# Altium integrated library Accumulator_MGMT_Sys.IntLib: 73 symbols (part 1 of 2)
Pins are listed as number, name and electrical type; pins without a type are passive.

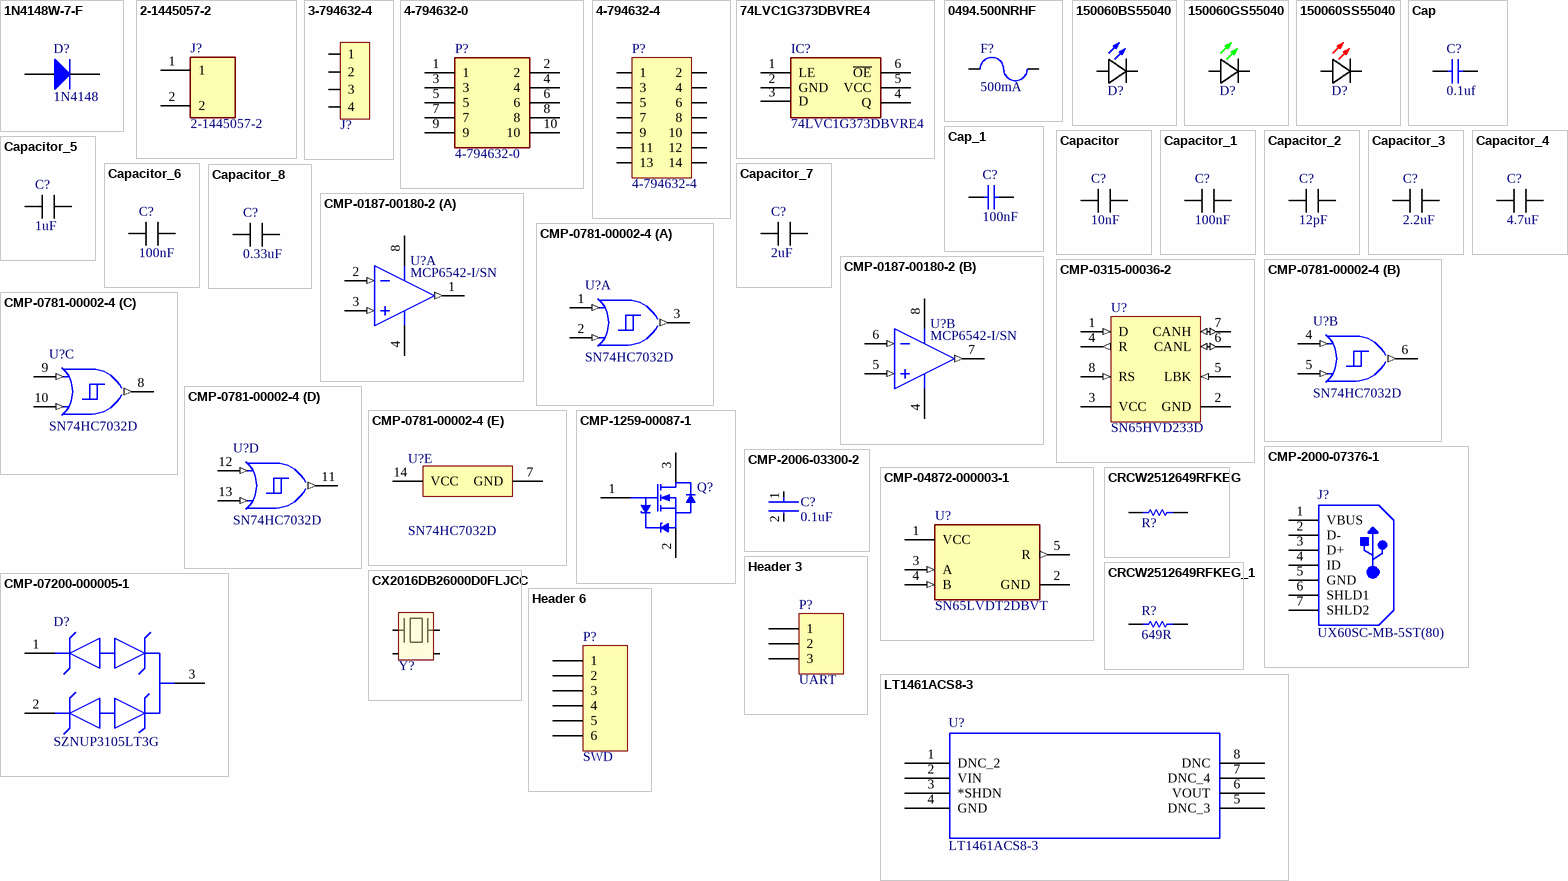
[diagram p0: symbols 1N4148W-7-F to LT1461ACS8-3]

## 1N4148W-7-F
designator D?, comment 1N4148
DIODE GEN PURP 100V 300MA SOD123; Manufacturer 1: Diodes; Manufacturer Part Number 1: 1N4148W-7-F; Forward Current: 150mA; Element Configuration: Single; Reverse Recovery Time: 4ns; Max Forward Surge Current (Ifsm): 2A; Polarity: Standard; Voltage Rating (DC): 75V; Power Rating: 400mW; Capacitance: 2pF; Peak Reverse Current: 1uA; Forward Voltage: 1.25V; Supplier 1: Digi-Key; Supplier Part Number 1: 1N4148W-FDIDKR-ND; Stock 1: 3523690; Pricing 1: 1=0.16000, 10=0.14600, 25=0.13880, 100=0.06110, 250=0.05868, 500=0.04800, 1000=0.03333 (USD); RoHS: Yes; Mount: Surface Mount; Number of Pins: 2; Weight: 0.000353oz; Contact Plating: Tin,Matte; Min Operating Temperature: -65°C; Max Operating Temperature: 150°C; Voltage: 100V; Packaging: Tape and Reel; Max Repetitive Reverse Voltage (Vrrm): 100V; Peak Non-Repetitive Surge Current: 2A; Current Rating: 150mA; Output Current: 150mA; Max Surge Current: 2A; Package Quantity: 3000; Recovery Time: 4ns; Max Reverse Voltage (DC): 100V; Average Rectified Current: 300mA; Power Dissipation: 400mW; Length: 2.85mm; Height: 1.25mm; Width: 1.7mm; Radiation Hardening: No; REACH SVHC: No SVHC; Lead Free: Lead Free; ComponentLink1URL: https://datasheet.ciiva.com/911/ds30086-911734.pdf?src-supplier=Digi-Key; ComponentLink1Description: https://datasheet.ciiva.com/911/ds30086-911734.pdf?src-supplier=Digi-Key; ComponentLink2URL: https://datasheet.ciiva.com/911/ds30086-911735.pdf?src-supplier=Digi-Key; ComponentLink2Description: https://datasheet.ciiva.com/911/ds30086-911735.pdf?src-supplier=Digi-Key; ComponentLink3URL: https://datasheet.ciiva.com/911/ds30086-911736.pdf?src-supplier=Digi-Key; ComponentLink3Description: https://datasheet.ciiva.com/911/ds30086-911736.pdf?src-supplier=Digi-Key; ComponentLink4URL: https://datasheet.ciiva.com/8300/ds30086-8300392.pdf?src-supplier=Avnet; ComponentLink4Description: https://datasheet.ciiva.com/8300/ds30086-8300392.pdf?src-supplier=Avnet; ComponentLink5URL: https://datasheet.ciiva.com/25919/ds30086-25919609.pdf?src-supplier=Avnet+Europe; ComponentLink5Description: https://datasheet.ciiva.com/25919/ds30086-25919609.pdf?src-supplier=Avnet+Europe; ComponentLink6URL: https://datasheet.ciiva.com/22695/1915529-22695239.pdf?src-supplier=Element14; ComponentLink6Description: https://datasheet.ciiva.com/22695/1915529-22695239.pdf?src-supplier=Element14; ComponentLink7URL: https://datasheet.ciiva.com/1179/1915529-1179304.pdf?src-supplier=Element14; ComponentLink7Description: https://datasheet.ciiva.com/1179/1915529-1179304.pdf?src-supplier=Element14; ComponentLink8URL: https://datasheet.ciiva.com/4435/ds30086-4435128.pdf?src-supplier=Mouser; ComponentLink8Description: https://datasheet.ciiva.com/4435/ds30086-4435128.pdf?src-supplier=Mouser; ComponentLink9URL: https://datasheet.ciiva.com/15219/getdatasheetpartid-110030-15219548.pdf?src-supplier=Verical; ComponentLink9Description: https://datasheet.ciiva.com/15219/getdatasheetpartid-110030-15219548.pdf?src-supplier=Verical; ComponentLink10URL: https://datasheet.ciiva.com/8303/ds30086-8303197.pdf?src-supplier=Avnet; ComponentLink10Description: https://datasheet.ciiva.com/8303/ds30086-8303197.pdf?src-supplier=Avnet
footprint DIOD-SOD123-2_V (SOD123, 2-Leads, Body 2.7x1.55mm, Height 1.45mm)
footprint DIOD-SOD123-2_V (SOD123, 2-Leads, Body 2.7x1.55mm, Height 1.45mm)
footprint 425 (SOD-123; 2 Leads; Body 2.7 x 1.6 mm, (LxW))
pins: 1 A, 2 K

## 2-1445057-2
designator J?
CONN HEADER 3MM 2POS R/A TIN SMD; MF: {'manufacturer': u'TE Connectivity'}; Package: None; MP: 2-1445057-2; Availability: Unavailable; Price: None; Value: *
footprint TE_2-1445057-2
pins: 1, 2

## 3-794632-4
designator J?  (value not drawn)
Conn Power HDR 4 POS 3mm Solder ST Thru-Hole 4 Terminal 1 Port Box/Tray; Manufacturer: TE Connectivity; Number of Terminals/Pins: 4; Max Voltage Rating (AC): 250V; Connector Type: Pin; Mating Retention: Yes (With); PCB Mount Alignment: No (Without); Current Rating: 5A; Number of Ports: 1; Connector System: Wire-to-Board; PCB Mount Retention: With; PCB Mounting Orientation: Vertical; VDE Tested: Yes; Pitch: 0.118inch; Row Spacing: 0.118mm; PCB Thickness: 1.57mm; Plating Thickness: 2.54um; Approvals: CSA; Supplier 1: Mouser; Manufacturer Part Number: 3-794632-4; RoHS: Yes; Category: Power Connectors; Stock 1: 833; Pricing 1: 1=1.68000, 10=1.43000, 50=1.43000, 100=1.24000, 377=1.09000, 1000=1.09000, 1131=0.93600, 2639=0.87300, 5278=0.83000, 10000=0.83000, 10179=0.81100, 25259=0.79100 (USD); Mount: Through Hole; Housing Color: Black; Contact Material: Brass; Color: Black; Housing Material: Nylon; Contact Plating: Gold,Tin; Min Operating Temperature: -40°C; Max Operating Temperature: 221°C; Packaging: Tray; Package Quantity: 377; Number of Rows: 2; Fastening Type: Ramp; Orientation: Straight; Number of Positions: 4; Termination: Solder; Number of Contacts: 4; Voltage Rating: 250V; Contact Gender: Male; Mating Alignment: Yes (With); Contact Current Rating: 5A; Contact Retention: No (Without); Sealable: No (Without); Circuit Application: Power; Number of Power Positions: 4; Length: 10mm; Width: 9.24mm; Height: 8.67mm; Depth: 8.67mm; Radiation Hardening: No; Flammability Rating: UL94 V-0; Lead Free: Lead Free; ELV: Compliant; ComponentLink1URL: https://datasheet.ciiva.com/717/eng-cd-794632-e-717814.pdf?src-supplier=Digi-Key; ComponentLink1Description: https://datasheet.ciiva.com/717/eng-cd-794632-e-717814.pdf?src-supplier=Digi-Key; ComponentLink2URL: https://datasheet.ciiva.com/30185/eng-cs-82181-softshell-high-density-0508-30185662.pdf?src-supplier=Onlinecomponents.com; ComponentLink2Description: https://datasheet.ciiva.com/30185/eng-cs-82181-softshell-high-density-0508-30185662.pdf?src-supplier=Onlinecomponents.com; Supplier Part Number 1: 571-3-794632-4
footprint 3-794632-4 (4 pos Vert Micro MATE-N-LOK)
pins: 1, 2, 3, 4

## 4-794632-0
designator P?
Connector; Manufacturer_Name: TE Connectivity; Datasheet Link: https://www.mouser.com/ProductDetail/TE-Connectivity-AMP/4-794632-0?qs=Rd%252BN518myCyGOpGRvqIhCg%3D%3D; Height: 9.44mm; Manufacturer_Part_Number: 4-794632-0; Mouser Part Number: 571-4-794632-0; Mouser Price/Stock: https://www.mouser.co.uk/ProductDetail/TE-Connectivity-AMP/4-794632-0?qs=Rd%252BN518myCyGOpGRvqIhCg%3D%3D
footprint SHDR10W82P300_2X5_1586X686X944P
pins: 1, 2, 3, 4, 5, 6, 7, 8, 9, 10

## 4-794632-4
designator P?
Micro MATE-N-LOK, Rectangular Power Connectors, Header, Plug, Wire-to-Board, 14 Position
footprint 4-794632-4 (14 Way Micro MATE-N-LOK)
pins: 1, 2, 3, 4, 5, 6, 7, 8, 9, 10, 11, 12, 13, 14

## 74LVC1G373DBVRE4
designator IC?
Integrated Circuit; Manufacturer_Name: Texas Instruments; Datasheet Link: http://www.ti.com/general/docs/suppproductinfo.tsp?distId=10&gotoUrl=http%3A%2F%2Fwww.ti.com%2Flit%2Fgpn%2Fsn74lvc1g373; Height: 1.45mm; Manufacturer_Part_Number: 74LVC1G373DBVRE4
footprint SOT95P280X145-6N
footprint SOT95P280X145-6N
footprint SN74LVC1G373
pins: 1 LE, 2 GND, 3 D, 4 Q, 5 VCC, 6 ~{OE}

## 0494.500NRHF
designator F?  value 500mA  (hidden comment: 0494.500NRHF)
Surface Mount Fuses 32V .500A Case 0603 Protector Slim
footprint 0494.500NRHF (500mA Fast Blow Fuse)
pins: 1, 2

## 150060BS55040
designator D?  (value not drawn)
LED BLUE DIFFUSED 0603 SMD; Manufacturer: Wurth Electronics; Lens Style: Flat; Luminous Intensity: 80mcd; Forward Voltage: 3.2V; Test Current: 20mA; Viewing Angle: 140°; Dominant Wavelength: 470nm; Lens Size: 0.8mm; Supplier 1: Mouser; Manufacturer Part Number: 150060BS55040; RoHS: No; Pricing 1: 1=0.18000, 10=0.16800, 50=0.16800, 100=0.15200, 1000=0.12100, 10000=0.10600 (USD); Mount: Surface Mount; Case/Package: 0603; Color: Blue; Packaging: Tape and Reel; Lens Transparency: Diffused; Length: 1.6mm; Width: 0.8mm; Height: 0.5mm; RoHS Compliant: No; ComponentLink1URL: http://www.farnell.com/datasheets/2621640.pdf?src-supplier=Farnell; ComponentLink1Description: http://www.farnell.com/datasheets/2621640.pdf?src-supplier=Farnell; ComponentLink2URL: https://www.we-online.de/web/en/index.php/download/media/07_electronic_components/download_center_1/application_notes_berichte/ano002_leds___the_future_of_horticultural_lighting/ANO002b_EN_LEDs_The_Future_of_Horticultural_Lighting.pdf?src-supplier=Digi-Key; ComponentLink2Description: https://www.we-online.de/web/en/index.php/download/media/07_electronic_components/download_center_1/application_notes_berichte/ano002_leds___the_future_of_horticultural_lighting/ANO002b_EN_LEDs_The_Future_of_Horticultural_Lighting.pdf?src-supplier=Digi-Key; ComponentLink3URL: https://katalog.we-online.de/pbs/datasheet/150060BS55040.pdf?src-supplier=Digi-Key; ComponentLink3Description: https://katalog.we-online.de/pbs/datasheet/150060BS55040.pdf?src-supplier=Digi-Key; ComponentLink4URL: http://www.farnell.com/datasheets/2621640.pdf?src-supplier=Newark; ComponentLink4Description: http://www.farnell.com/datasheets/2621640.pdf?src-supplier=Newark; Supplier Part Number 1: 710-150060BS55040
footprint LED (0603)
pins: 1 K, 2 A

## 150060GS55040
designator D?  (value not drawn)
LED GREEN DIFFUSED 0603 SMD; Manufacturer: Wurth Electronics; Lens Style: Flat; Luminous Intensity: 430mcd; Forward Voltage: 3.2V; Test Current: 20mA; Viewing Angle: 140°; Dominant Wavelength: 525nm; Lens Size: 0.8mm; Supplier 1: Mouser; Manufacturer Part Number: 150060GS55040; RoHS: No; Category: LEDs; Stock 1: 3998; Pricing 1: 1=0.23000, 10=0.21000, 50=0.21000, 100=0.19000, 1000=0.15200, 10000=0.13200 (USD); Mount: Surface Mount; Case/Package: 0603; Color: Green; Case Code (Imperial): 0603; Case Code (Metric): 1608; Packaging: Cut Tape; Lens Transparency: Diffused; Length: 1.6mm; Width: 0.8mm; Height: 0.5mm; RoHS Compliant: No; ComponentLink1URL: http://www.farnell.com/datasheets/2621642.pdf?src-supplier=Farnell; ComponentLink1Description: http://www.farnell.com/datasheets/2621642.pdf?src-supplier=Farnell; ComponentLink2URL: http://katalog.we-online.de/pbs/datasheet/150060GS55040.pdf?src-supplier=Digi-Key; ComponentLink2Description: http://katalog.we-online.de/pbs/datasheet/150060GS55040.pdf?src-supplier=Digi-Key; ComponentLink3URL: https://www.we-online.de/web/en/index.php/download/media/07_electronic_components/download_center_1/application_notes_berichte/ano002_leds___the_future_of_horticultural_lighting/ANO002b_EN_LEDs_The_Future_of_Horticultural_Lighting.pdf?src-supplier=Digi-Key; ComponentLink3Description: https://www.we-online.de/web/en/index.php/download/media/07_electronic_components/download_center_1/application_notes_berichte/ano002_leds___the_future_of_horticultural_lighting/ANO002b_EN_LEDs_The_Future_of_Horticultural_Lighting.pdf?src-supplier=Digi-Key; ComponentLink4URL: https://katalog.we-online.de/pbs/datasheet/150060GS55040.pdf?src-supplier=Digi-Key; ComponentLink4Description: https://katalog.we-online.de/pbs/datasheet/150060GS55040.pdf?src-supplier=Digi-Key; ComponentLink5URL: http://www.farnell.com/datasheets/2621642.pdf?src-supplier=Newark; ComponentLink5Description: http://www.farnell.com/datasheets/2621642.pdf?src-supplier=Newark; Supplier Part Number 1: 710-150060GS55040
footprint LED (0603)
pins: 1 K, 2 A

## 150060SS55040
designator D?  (value not drawn)
LED RED DIFFUSED 0603 SMD; Manufacturer: Wurth Electronics; Lens Style: Flat; Luminous Intensity: 70mcd; Forward Voltage: 2V; Test Current: 20mA; Viewing Angle: 140°; Dominant Wavelength: 630nm; Lens Size: 0.8mm; Supplier 1: Mouser; Manufacturer Part Number: 150060SS55040; RoHS: No; Category: LEDs; Stock 1: 17006; Pricing 1: 1=0.18000, 10=0.16800, 50=0.16800, 100=0.15200, 1000=0.12100, 10000=0.10600 (USD); Mount: Surface Mount; Case/Package: 0603; Color: Red; Case Code (Imperial): 0603; Case Code (Metric): 1608; Packaging: Tape and Reel; Lens Transparency: Diffused; Length: 1.6mm; Width: 0.8mm; Height: 0.5mm; RoHS Compliant: No; Supplier Part Number 1: 710-150060SS55040
footprint LED (0603)
pins: 1 K, 2 A

## Cap
designator C?  value 0.1uf  (hidden comment: Cap)
264-4630; Published: 8-Jun-2000; LatestRevisionDate: 17-Jul-2002; LatestRevisionNote: Re-released for DXP Platform.; PackageReference: RAD-0.3; Publisher: Altium Limited; PackageDescription: Radial Cap, Thru-Hole; 2 Leads; 0.3 in Pin Spacing
simulation model CAP (Capacitor)
signal-integrity model Cap
footprint CAP0603 (Chip Capacitor, 2-Leads, Body 1.60x0.80mm, IPC Medium Density)
pins: 1, 2

## Cap_1
designator C?, comment value 100nF  (hidden comment: Cap)
Published: 8-Jun-2000; LatestRevisionDate: 17-Jul-2002; LatestRevisionNote: Re-released for DXP Platform.; PackageReference: RAD-0.3; Publisher: Altium Limited; PackageDescription: Radial Cap, Thru-Hole; 2 Leads; 0.3 in Pin Spacing
simulation model CAP (Capacitor)
signal-integrity model Cap
footprint CAP0603 (Chip Capacitor, 2-Leads, Body 1.60x0.80mm, IPC Medium Density)
pins: 1, 2

## Capacitor
designator C?, comment value 10nF  (hidden comment: C)
Capacitor; ComponentLink1Description: New link; ComponentLink1URL: *
footprint C_0805 (0805 Capacitor)
footprint C_1210 (1210 Capacitor)
footprint 0402 (0402 Capacitor)
footprint CAP0603 (Chip Capacitor, 2-Leads, Body 1.60x0.80mm, IPC Medium Density)
pins: 1, 2

## Capacitor_1
designator C?, comment value 100nF  (hidden comment: C)
Capacitor; ComponentLink1Description: New link; ComponentLink1URL: *
footprint 0402 (0402 Capacitor)
footprint C_0805 (0805 Capacitor)
footprint C_1210 (1210 Capacitor)
footprint CAP0603 (Chip Capacitor, 2-Leads, Body 1.60x0.80mm, IPC Medium Density)
pins: 1, 2

## Capacitor_2
designator C?, comment value 12pF  (hidden comment: C)
Capacitor; ComponentLink1Description: New link; ComponentLink1URL: *
footprint 0402 (0402 Capacitor)
footprint C_0805 (0805 Capacitor)
footprint C_1210 (1210 Capacitor)
footprint C_0603 (0603 Capacitor)
pins: 1, 2

## Capacitor_3
designator C?, comment value 2.2uF  (hidden comment: C)
Capacitor; ComponentLink1Description: New link; ComponentLink1URL: *
footprint 0402 (0402 Capacitor)
footprint C_0805 (0805 Capacitor)
footprint C_1210 (1210 Capacitor)
footprint CAP0603 (Chip Capacitor, 2-Leads, Body 1.60x0.80mm, IPC Medium Density)
pins: 1, 2

## Capacitor_4
designator C?, comment value 4.7uF  (hidden comment: C)
Capacitor; ComponentLink1Description: New link; ComponentLink1URL: *
footprint 0402 (0402 Capacitor)
footprint C_0805 (0805 Capacitor)
footprint C_1210 (1210 Capacitor)
footprint CAP0603 (Chip Capacitor, 2-Leads, Body 1.60x0.80mm, IPC Medium Density)
pins: 1, 2

## Capacitor_5
designator C?, comment value 1uF  (hidden comment: C)
Capacitor; ComponentLink1Description: New link; ComponentLink1URL: *
footprint 0402 (0402 Capacitor)
footprint C_0805 (0805 Capacitor)
footprint C_1210 (1210 Capacitor)
footprint CAP0603 (Chip Capacitor, 2-Leads, Body 1.60x0.80mm, IPC Medium Density)
pins: 1, 2

## Capacitor_6
designator C?, comment value 100nF  (hidden comment: CL10B104KA8NNWC)
Capacitor; ComponentLink1Description: New link; ComponentLink1URL: *
footprint 0402 (0402 Capacitor)
footprint C_0805 (0805 Capacitor)
footprint C_1210 (1210 Capacitor)
footprint CAP0603 (Chip Capacitor, 2-Leads, Body 1.60x0.80mm, IPC Medium Density)
pins: 1, 2

## Capacitor_7
designator C?, comment value 2uF  (hidden comment: C)
Capacitor; ComponentLink1Description: New link; ComponentLink1URL: *
footprint 0402 (0402 Capacitor)
footprint C_0805 (0805 Capacitor)
footprint C_1210 (1210 Capacitor)
footprint CAP0603 (Chip Capacitor, 2-Leads, Body 1.60x0.80mm, IPC Medium Density)
pins: 1, 2

## Capacitor_8
designator C?, comment value 0.33uF  (hidden comment: C)
Capacitor; ComponentLink1Description: New link; ComponentLink1URL: *
footprint 0402 (0402 Capacitor)
footprint C_0805 (0805 Capacitor)
footprint C_1210 (1210 Capacitor)
footprint CAP0603 (Chip Capacitor, 2-Leads, Body 1.60x0.80mm, IPC Medium Density)
pins: 1, 2

## CMP-0187-00180-2
designator U?, comment MCP6542-I/SN
Push-Pull Output Sub-Microamp Comparator, 8-Pin SOIC, Industrial Temperature; Manufacturer: Microchip; PackageReference: SOIC-SN8; PackageVersion: revBB, Aug-2009; ComponentLink3URL: http://www.microchip.com/stellent/groups/techpub_sg/documents/packagingspec/en012702.pdf; Code_JEDEC: MS-012; DatasheetVersion: revH, Dec-2011; ComponentLink1URL: http://www.microchip.com/; ComponentLink2Description: Datasheet; RevisionNote: URLs added. DatasheetVersion updated.; ComponentLink2URL: http://ww1.microchip.com/downloads/en/DeviceDoc/21696H.pdf; ComponentLink3Description: Package Specification; ComponentLink1Description: Manufacturer URL; Code_IPC: SOIC127P600-8; PackageDescription: 8-Lead Plastic Small Outline (SN) - Narrow, 3.90mm Body [SOIC]; Manufacturer Part Number: MCP6542-I/SN
footprint SOIC-SN8_N (SOIC, 8-Leads, Body 4.9x3.8mm, Pitch 1.27mm, IPC Medium Density)
footprint SOIC-SN8_M (SOIC, 8-Leads, Body 4.9x3.8mm, Pitch 1.27mm, IPC Low Density)
footprint SOIC-SN8_L (SOIC, 8-Leads, Body 4.9x3.8mm, Pitch 1.27mm, IPC High Density)
pins on every part: 4 VSS (power), 8 VDD
part A pins: 1 OUTA (out), 2 VINA- (in), 3 VINA+ (in)
part B pins: 5 VINB+ (in), 6 VINB- (in), 7 OUTB (out)

## CMP-0315-00036-2
designator U?, comment SN65HVD233D
3.3V CAN Transceiver with Standby Mode, Loop-back, 6 mA, -40 to 125 degC, 8-pin SOIC (D), Green (RoHS & no Sb/Br); Manufacturer: Texas Instruments; Receivers Per Package: 1; Bus Fault Voltage(V): +/-30; Rating: Catalog; ICC(Max)(mA): 6; Supply Voltage(s)(V): 3.3; Transient Pulse Protection(V): -100 to 100; PackageVersion: revM, Jun-2011; PackageReference: D0008A; ComponentLink1Description: Datasheet; Isolated: No; Footprint: PCA82C250, excludes pin5; DatasheetVersion: SLLS557F; PackageDescription: 8-Pin Plastic Small Outline Integrated Circuit, 4.9 x 3.9 mm, Pitch 1.27 mm Pitch; Features: Loop Back; Low Power Mode: Standby; SubFamily: CAN; Drivers Per Package: 1; Eco-Plan: Green (RoHS & no Sb/Br); ComponentLink1URL: http://www.ti.com/general/docs/lit/getliterature.tsp?genericPartNumber=SN65HVD233&fileType=pdf; PartNumber: SN65HVD233D; Code_JEDEC: MS-012AA; Mounting Technology: Surface Mount; Manufacturer Part Number: SN65HVD233D
footprint D0008A_N (SOIC, 8-Leads, Body 5x4mm, Pitch 1.27mm, IPC Medium Density)
footprint D0008A_L (SOIC, 8-Leads, Body 5x4mm, Pitch 1.27mm, IPC High Density)
footprint D0008A_M (SOIC, 8-Leads, Body 5x4mm, Pitch 1.27mm, IPC Low Density)
pins: 1 D (in), 2 GND (power), 3 VCC, 4 R (out), 5 LBK (in), 6 CANL (io), 7 CANH (io), 8 RS (in)

## CMP-0781-00002-4
designator U?, comment SN74HC7032D
Quadruple Positive-OR Gates With Schmitt-Trigger Inputs, D0014A, TUBE; Manufacturer: Texas Instruments; Output Drive (IOL/IOH)(Max)(mA): 5.2/-5.2; Output Type: CMOS; Bits(#): 4; Rating: Catalog; VCC(Max)(V): 6; VCC(Min)(V): 2; ICC @ Nom Voltage(Max)(mA): 0.02; Voltage(Nom)(V): 5; tpd @ Nom Voltage(Max)(ns): 33; F @ Nom Voltage(Max)(Mhz): 70; Code_JEDEC: MS-012; Generic Part Number: SN74HC7032; PackageReference: D0014A; DatasheetVersion: SCLS036E; PackageVersion: http://www.ti.com/lit/ml/mpds177g/mpds177g.pdf; Operating Temperature Range(C): -40 to 85; Input Type: CMOS; Manufacturer Part Number: SN74HC7032D
footprint D0014A_L (SOIC, 14-Leads, Body 8.75x4mm, Pitch 1.27mm, IPC High Density)
footprint D0014A_M (SOIC, 14-Leads, Body 8.75x4mm, Pitch 1.27mm, IPC Low Density)
footprint D0014A_N (SOIC, 14-Leads, Body 8.75x4mm, Pitch 1.27mm, IPC Medium Density)
part A pins: 1 1A (in), 2 1B (in), 3 1Y (out)
part B pins: 4 2A (in), 5 2B (in), 6 2Y (out)
part C pins: 8 3Y (out), 9 3A (in), 10 3B (in)
part D pins: 11 4Y (out), 12 4A (in), 13 4B (in)
part E pins: 7 GND (power), 14 VCC (power)

## CMP-1259-00087-1
designator Q?, comment BSS138BK,215  (value not drawn)
N-Channel Trench MOSFET, 60 V, 0.36 A, -55 to 150 degC, 3-Pin SOT23, Tape and Reel; Manufacturer: NXP Semiconductors; Manufacturer Part Number: BSS138BK215; Channel Type: N; IDM [max] (A): 1.2; VDS [max] (V): 60; Packing: Tape & Reel; ID [max] (A): 0.36; Automotive Qualified: Y; VGSth [typ] (V): 1.1; PackageReference: SOT23; Code_JEDEC: TO-236AB; PackageDescription: 3-Pin Small Outline Transistor Package, Body 2.9 x 1.3 mm, Pitch 0.95 mm; ComponentLink2URL: http://www.nxp.com/documents/data_sheet/BSS138BK.pdf; PartNumber: BSS138BK,215; DatasheetVersion: Rev. 1; ComponentLink3Description: Package Specification; ComponentLink3URL: http://www.nxp.com/documents/outline_drawing/sot023_po.pdf; Mounting Technology: Surface Mount; ComponentLink1URL: http://www.nxp.com/; ComponentLink1Description: Manufacturer URL; ComponentLink2Description: Datasheet; PackageVersion: 06-03-16, 03/2006
footprint NXP-SOT23_L (SOT23, 3-Leads, Body 3x1.4mm, Pitch 0.95mm, IPC High Density)
footprint NXP-SOT23_N (SOT23, 3-Leads, Body 3x1.4mm, Pitch 0.95mm, IPC Medium Density)
footprint NXP-SOT23_M (SOT23, 3-Leads, Body 3x1.4mm, Pitch 0.95mm, IPC Low Density)
pins: 1 G "gate", 2 S "source", 3 D "drain"

## CMP-2000-07376-1
designator J?, comment UX60SC-MB-5ST(80)
Mini-B Connector, SMT Mount Receptacle Meeting Requirement of USB 2.0 Standard, 5 V, 1 A, -30 to 75 degC, 5-Pin SMD, RoHS, Tape and Reel; Manufacturer: Hirose Electric; Manufacturer: Hirose; Product Length (mm): 7.7mm; Voltage Rating Max: 5VAC; Number of Contacts: 5POS; Number of Ports: 1Port; Product Height (mm): 3.95mm; Product Depth (mm): 7mm; Pitch (mm): 0.8mm; Gender: RCP; Current Rating (Max): 1A; DELETED: Compliant; Product Diameter (mm): NotRequiredmm; Body Orientation: RightAngle; Operating Temp Range: -30Cto75C; Packaging: TapeandReel; Termination Method: Solder; Number of Terminals: 5; Package Description: 5-Pin Surface Mount Device, Body 7.7 x 7 mm, Pitch 0.8 mm; Mounting Technology: SurfaceMount; Contact Material: CopperAlloy; Package Reference: UX60SC-MB-5ST(80); Operating Temperature Min Deg. C: -30C; Housing Material: Synthetic; Operating Temperature Max Deg. C: 75C; Manufacturer URL: https://www.hirose.com; Datasheet Version: 04/2008; Type: Mini-USB; Datasheet URL: https://datasheet.ciiva.com/4598/e24000153-34949-4598883.pdf; Contact Plating: Gold; Mounting Style: ThroughHole; Manufacturer Part Number: UX60SC-MB-5ST(80)
footprint HIRO-UX60SC-MB-5ST(80)_V (SMD, 5-Leads, Body 7.7x7mm, Pitch 0.8mm)
pins: 1 VBUS, 2 D-, 3 D+, 4 ID, 5 GND, 6 SHLD1, 7 SHLD2

## CMP-2006-03300-2
designator C?, comment 0.1uF
CAP CER 0.1UF 50V X7R 0603; Manufacturer Part Number: C0603X104K5RACTU; Manufacturer: Kemet; Capacitance: 100nF; Material: Ceramic; Tolerance: 10%; Value: 100nF; Temperature Coefficient: 15%; Temperature Range High: +125°C; Temperature Range Low: -55°C; Voltage: 50V; ComponentLink2Description: Datasheet; RoHS: TRUE; ComponentLink2URL: https://content.kemet.com/datasheets/KEM_C1013_X7R_FT-CAP_SMD.pdf; Device Class L3: Ceramic Capacitors; Device Class L2: Capacitors; Package: C0603-CJ; Height: 0.95mm; Device Class L1: Passive Components; Temperature Characteristic: X7R; Lead Free: Yes; Digikey Description: CAP CER 0.1UF 50V X7R 0603; Automotive: No; Mouser Description: Capacitor; Ceramic; Cap 0.1uF; Tol+10%; SMT; Flexible Termination; Vol-Rtg 50V; TR; Temperature: -55°C to +125°C; Octopart: https://octopart.com/c0603x104k5ractu-kemet-9145062; Category: Cap; Voltage Rating: 50V; Ipc Land Pattern Name: CAPC16080X80; Manufacturer: KEMET
footprint FP-C0603-CJ-MFG
footprint FP-C0603-CJ-IPC_C
footprint FP-C0603-CJ-IPC_B
footprint FP-C0603-CJ-IPC_A
pins: 1, 2

## CMP-04872-000003-1
designator U?, comment SN65LVDT2DBVT
IC RECEIVER 0/1 SOT23-5; Manufacturer: Texas Instruments; Max Supply Voltage: 3.6V; Standoff Height: 0mm; Nominal Supply Current: 2-5.5mA; Interface: LVDS,LVTTL; Min Supply Voltage: 2.4V; Device Class L3: unset; Category: IC; Automotive: No; Ambient Temperature Range High: +85°C; Ambient Temperature Range Low: -40°C; Temperature Range Low: -40°C; RoHS: TRUE; ComponentLink2Description: Datasheet; Package: DBV0005A; Device Class L1: Integrated Circuits (ICs); Mouser Description: LVDS Interface IC Dual LVDS; Digikey Description: IC RECEIVER 0/1 SOT23-5; ComponentLink2URL: http://www.ti.com/lit/ds/symlink/sn65lvdt2.pdf; Height: 1.45mm; Temperature: -40°C to +85°C; Temperature Range High: +85°C; Lead Free: Yes; Octopart: https://octopart.com/sn65lvdt2dbvt-texas+instruments-712102; Device Class L2: Interface ICs; Manufacturer Part Number: SN65LVDT2DBVT
footprint FP-DBV0005A-MFG
footprint FP-DBV0005A-IPC_C
footprint FP-DBV0005A-IPC_B
footprint FP-DBV0005A-IPC_A
pins: 1 VCC, 2 GND, 3 A (in), 4 B (in), 5 R (out)

## CMP-07200-000005-1
designator D?, comment SZNUP3105LT3G
TVS DIODE 32V 66V SOT23-3; Manufacturer: ON Semiconductor; Capacitance: 30pF; Max Junction Temp: +150°C; Standoff Height: 0.01mm; Peak Pulse Power: 350W; Breakdown Voltage: 35.6V; Automotive Grade: Grade 0; Number Of Channels: 2; Value: 30pF; Direction: Bidirectional; Peak Pulse Current: 8A; Height: 1.11mm; Mouser Description: 32V Dual Line CAN Bus Protector in SOT-23 AEC-Q 24 V CAN Bus Protector in SOT-23; Device Class L3: unset; Clamping Voltage: 66V; Manufacturer Part Number: SZNUP3105LT3G; ComponentLink2Description: Datasheet; Octopart: https://octopart.com/sznup3105lt3g-on+semiconductor-54318507; Temperature Range High: +150°C; Reverse Standoff Voltage: 32V; RoHS: TRUE; Package: 318-08; Device Class L2: TVS Diodes; Device Class L1: Circuit Protection; Temperature Range Low: -55°C; Lead Free: Yes; Temperature: -55°C to +150°C; ComponentLink2URL: https://www.onsemi.com/pub/Collateral/NUP3105L-D.PDF; Automotive: Yes; Footprint Url: https://www.onsemi.com/pub/Collateral/318-08.PDF; Digikey Description: TVS DIODE 32V 66V SOT23-3; Category: Diode
footprint FP-318-08-MFG
footprint FP-318-08-IPC_C
footprint FP-318-08-IPC_B
footprint FP-318-08-IPC_A
pins: 1, 2, 3

## CRCW2512649RFKEG
designator R?  (value not drawn)
RES SMD 649 OHM 1% 1W 2512; Manufacturer 1: Vishay Dale; Resistance: 649R; Temperature Coefficient: 100ppm/°C; Voltage Rating (DC): 500V; Supplier 1: Digi-Key; Supplier Part Number 1: 541-649AFCT-ND; Manufacturer Part Number 1: CRCW2512649RFKEG; Stock 1: 2166; Pricing 1: 1=0.38000, 10=0.31800, 100=0.12420, 1000=0.05198 (USD); RoHS: Yes; Case/Package: 2512; Case Code (Metric): 6432; Case Code (Imperial): 2512; Min Operating Temperature: -55°C; Max Operating Temperature: 155°C; Package Quantity: 10; Tolerance: 1%; Packaging: Tape and Reel; Composition: Thick Film; Number of Terminations: 2; Features: Automotive AEC-Q200; Max Power Dissipation: 1W; Length: 0.248inch; Height: 0.028inch; Width: 0.124inch; Lead Free: Lead Free; ComponentLink1URL: https://datasheet.ciiva.com/2479/dcrcwe3-2479296.pdf?src-supplier=Digi-Key; ComponentLink1Description: https://datasheet.ciiva.com/2479/dcrcwe3-2479296.pdf?src-supplier=Digi-Key; ComponentLink2URL: https://datasheet.ciiva.com/2479/dcrcwe3-2479297.pdf?src-supplier=Digi-Key; ComponentLink2Description: https://datasheet.ciiva.com/2479/dcrcwe3-2479297.pdf?src-supplier=Digi-Key; ComponentLink3URL: https://datasheet.ciiva.com/2479/dcrcwe3-2479298.pdf?src-supplier=Digi-Key; ComponentLink3Description: https://datasheet.ciiva.com/2479/dcrcwe3-2479298.pdf?src-supplier=Digi-Key
footprint RESC6332X06N (Chip Resistor, 2-Leads, Body 6.30x3.15mm, IPC Medium Density)
pins: 1, 2

## CRCW2512649RFKEG_1
designator R?, comment value 649R  (hidden comment: TBD)
RES SMD 649 OHM 1% 1W 2512; Manufacturer 1: Vishay Dale; Manufacturer Part Number 1: CRCW2512649RFKEG; Temperature Coefficient: 100ppm/°C; Voltage Rating (DC): 500V; Supplier 1: Digi-Key; Supplier Part Number 1: 541-649AFCT-ND; Stock 1: 2166; Pricing 1: 1=0.38000, 10=0.31800, 100=0.12420, 1000=0.05198 (USD); RoHS: Yes; Case/Package: 2512; Case Code (Metric): 6432; Case Code (Imperial): 2512; Min Operating Temperature: -55°C; Max Operating Temperature: 155°C; Package Quantity: 10; Resistance: 649R; Tolerance: 1%; Packaging: Tape and Reel; Composition: Thick Film; Number of Terminations: 2; Features: Automotive AEC-Q200; Max Power Dissipation: 1W; Length: 0.248inch; Height: 0.028inch; Width: 0.124inch; Lead Free: Lead Free; ComponentLink1URL: https://datasheet.ciiva.com/2479/dcrcwe3-2479296.pdf?src-supplier=Digi-Key; ComponentLink1Description: https://datasheet.ciiva.com/2479/dcrcwe3-2479296.pdf?src-supplier=Digi-Key; ComponentLink2URL: https://datasheet.ciiva.com/2479/dcrcwe3-2479297.pdf?src-supplier=Digi-Key; ComponentLink2Description: https://datasheet.ciiva.com/2479/dcrcwe3-2479297.pdf?src-supplier=Digi-Key; ComponentLink3URL: https://datasheet.ciiva.com/2479/dcrcwe3-2479298.pdf?src-supplier=Digi-Key; ComponentLink3Description: https://datasheet.ciiva.com/2479/dcrcwe3-2479298.pdf?src-supplier=Digi-Key
footprint R_0805 (0805 Resistor)
pins: 1, 2

## CX2016DB26000D0FLJCC
designator Y?  (value not drawn)
Crystals AEC-Q200 26000kHz 8pF 2x1.6mm
footprint CX2016DB26000D0FLJCC (26 MHz)
pins: 1, 2 GND, 3, 4 GND

## Header 3
designator P?, comment UART  (no BOM)
Header, 3-Pin; Manufacturer: -; Mfg No.: -; Notes: -; Suppl. Link/No.: -; Supplier: Digikey; Value: -
footprint HDR1X3 (Connector; Header; 3 Position)
signal-integrity model Connector
pins: 1, 2, 3

## Header 6
designator P?, comment SWD  (no BOM)
Header, 6-Pin; LatestRevisionDate: 17-Jul-2002; LatestRevisionNote: Re-released for DXP Platform.; Publisher: Altium Limited
footprint HDR1X6 (Connector; Header; 6 Position)
signal-integrity model Connector
pins: 1, 2, 3, 4, 5, 6

## LT1461ACS8-3
designator U?
MF: {'manufacturer': u'Analog Devices / Linear Technology'}; Price: None; Value: *; Availability: Unavailable; MP: LT1461ACS8-3; Package: None
footprint SO-8_S
pins: 1 DNC_2, 2 VIN, 3 *SHDN, 4 GND (power), 5 DNC_3, 6 VOUT, 7 DNC_4, 8 DNC

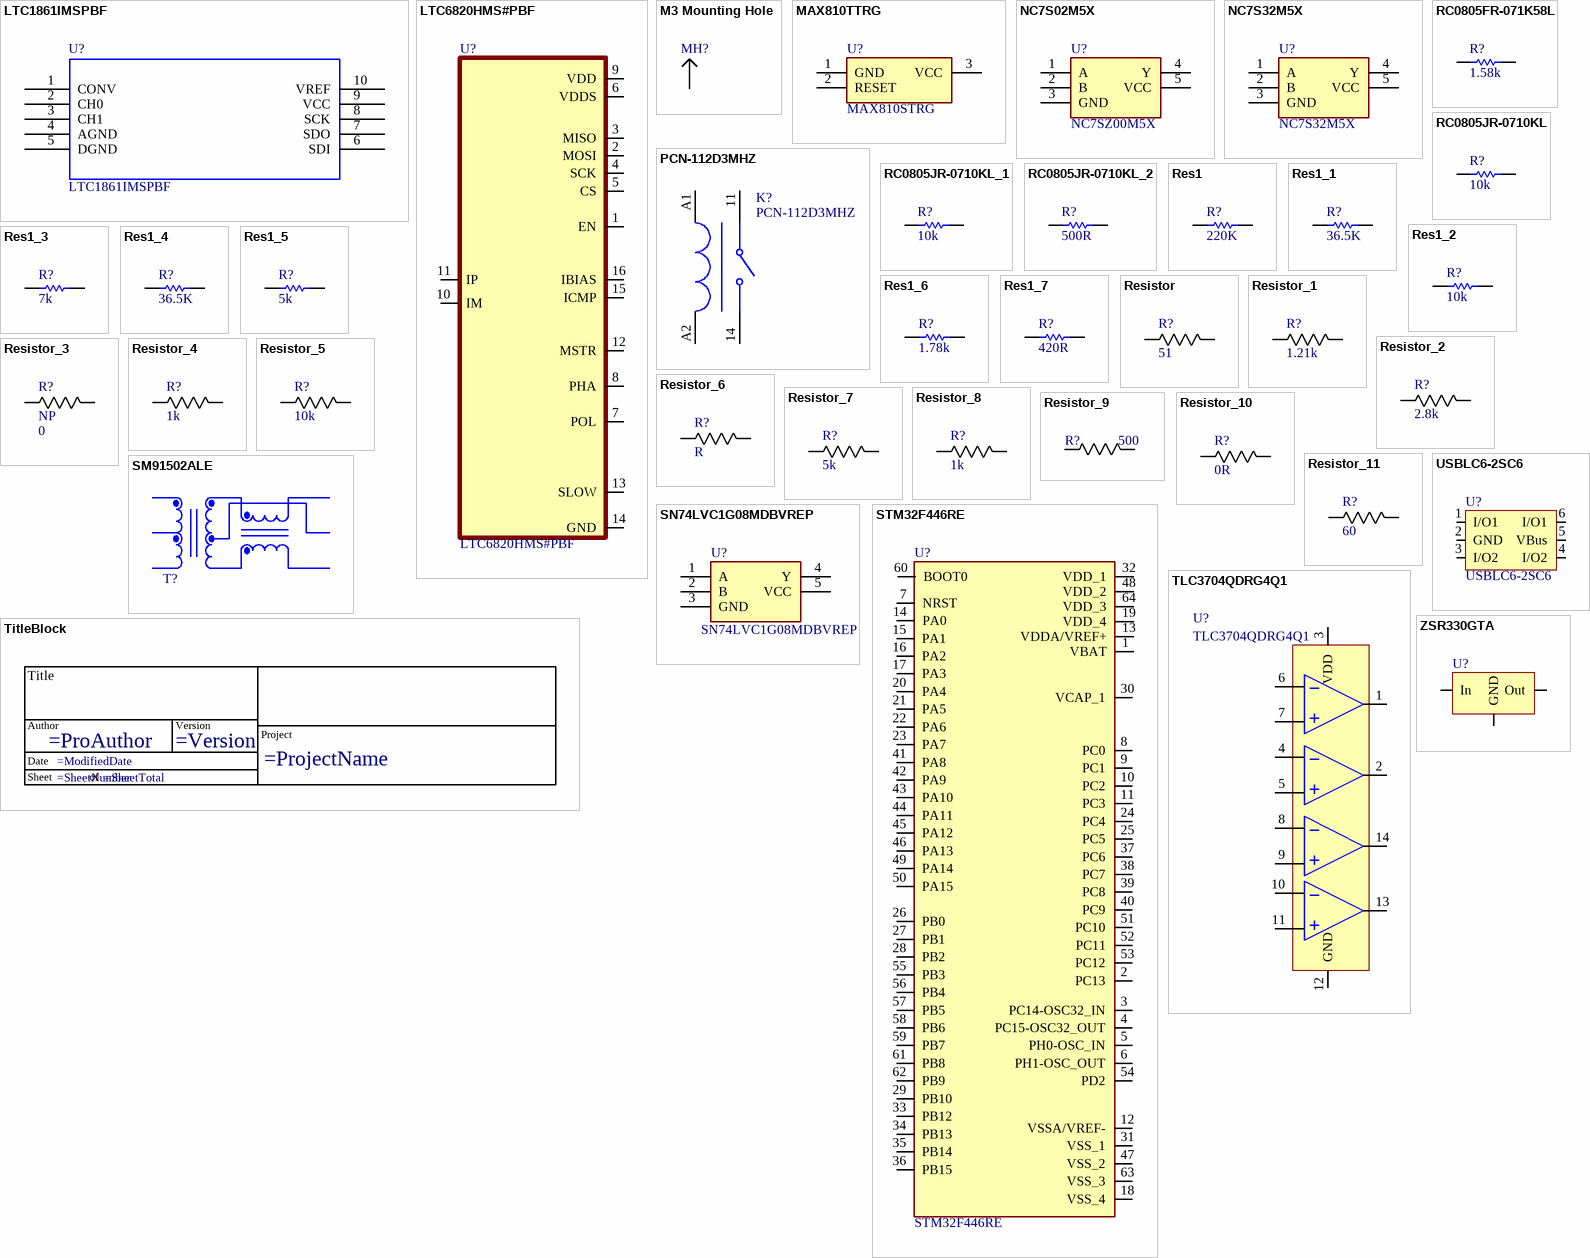
[diagram p1: symbols LTC1861IMSPBF to ZSR330GTA]

## LTC1861IMSPBF
designator U?
MF: {'manufacturer': u'Analog Devices'}; Price: None; Value: *; Availability: Unavailable; MP: LTC1861IMSPBF; Package: None
footprint MSOP-10_MS
pins: 1 CONV, 2 CH0, 3 CH1, 4 AGND (power), 5 DGND (power), 6 SDI, 7 SDO, 8 SCK, 9 VCC, 10 VREF

## LTC6820HMS#PBF
designator U?
IC COMM INTERFACE ISOSPI 16MSOP; Manufacturer: Analog Devices / Linear Technology; MF: {'manufacturer': u'Analog Devices Inc.'}; Interface: SPI; Min Supply Voltage: 2.7V; Max Supply Voltage: 5.5V; Availability: Unavailable; Price: None; Package: None; MP: LTC6820HMS#PBF; Value: *; Supplier 1: Mouser; Manufacturer Part Number: LTC6820HMS#PBF; RoHS: Yes; Category: Interface ICs; Pricing 1: 1=6.860000, 10=6.160000, 25=5.820000, 50=5.820000, 100=5.040000, 1000=4.780000, 10000=4.780000 (USD); Case/Package: MSOP; Number of Pins: 16; Min Operating Temperature: -40°C; Max Operating Temperature: 125°C; Package Quantity: 37; Packaging: Rail/Tube; Series: isoSPI; REACH SVHC: No SVHC; RoHS Compliant: Yes; ComponentLink1URL: https://datasheet.ciiva.com/22649/1730562-22649441.pdf?src-supplier=Element14; ComponentLink1Description: https://datasheet.ciiva.com/22649/1730562-22649441.pdf?src-supplier=Element14; ComponentLink2URL: https://datasheet.ciiva.com/6573/42317-6573703.pdf?src-supplier=Digi-Key; ComponentLink2Description: https://datasheet.ciiva.com/6573/42317-6573703.pdf?src-supplier=Digi-Key; ComponentLink3URL: https://datasheet.ciiva.com/22767/1730562-22767675.pdf?src-supplier=Farnell; ComponentLink3Description: https://datasheet.ciiva.com/22767/1730562-22767675.pdf?src-supplier=Farnell; Supplier Part Number 1: 584-LTC6820HMS#PBF
footprint MSOP-16_MS
pins: 1 EN, 2 MOSI, 3 MISO, 4 SCK, 5 CS, 6 VDDS, 7 POL, 8 PHA, 9 VDD, 10 IM, 11 IP, 12 MSTR, 13 SLOW, 14 GND, 15 ICMP, 16 IBIAS

## M3 Mounting Hole
designator MH?  (value not drawn)  (no BOM)
footprint M3 MH (M3 Mounting Hole)
pins: 1

## MAX810TTRG
designator U?, comment MAX810STRG
Integrated Circuit; Manufacturer_Name: ON Semiconductor; Manufacturer_Part_Number: MAX810TTRG; Datasheet Link: http://www.onsemi.com/pub/Collateral/MAX809S-D.PDF; Height: 1.11mm
footprint SOT96P237X111-3N
footprint SOT96P237X111-3N
pins: 1 GND, 2 RESET, 3 VCC

## NC7S02M5X
designator U?, comment NC7SZ00M5X
NAND GATEEE; Manufacturer_Name: ON Semiconductor; Manufacturer_Part_Number: NC7S02M5X; Height: 1.25mm
footprint SOT95P280X125-5N
footprint SOT95P280X125-5N
pins: 1 A, 2 B, 3 GND, 4 Y, 5 VCC

## NC7S32M5X
designator U?
OR GATEEEE; Manufacturer_Name: ON Semiconductor; Datasheet Link: https://componentsearchengine.com/Datasheets/2/NC7S32M5X.pdf; Height: 1.1mm; Manufacturer_Part_Number: NC7S32M5X
footprint SOT95P275X110-5N
footprint SOT95P275X110-5N
pins: 1 A, 2 B, 3 GND, 4 Y, 5 VCC

## PCN-112D3MHZ
designator K?
Relay
footprint PCN-112D3MHZ
pins: 11, 14, A1, A2

## RC0805FR-071K58L
designator R?, comment 1.58k
1.58k 0805 1% 1/8W; Resistance: 1.58kR; Temperature Coefficient: 100ppm/°C; Power Rating: 125mW; Voltage Rating: 150V; MPN: *; Category: *; Supplier 1: Digi-Key; RoHS: Yes; Case/Package: 0805; Contact Plating: Tin; Case Code (Metric): 2012; Case Code (Imperial): 0805; Min Operating Temperature: -55°C; Max Operating Temperature: 155°C; Tolerance: 1%; Composition: Thick Film; Package Quantity: 1; Packaging: Tape and Reel; Number of Terminations: 2; Termination: SMD/SMT; Military Standard: Not; Max Power Dissipation: 125mW; Voltage Rating (DC): 150V; Features: Moisture Resistant; Length: 0.079inch; Height: 0.024inch; Width: 0.049inch; Depth: 1.25mm; Radiation Hardening: No; Lead Free: Lead Free; ComponentLink1URL: https://datasheet.ciiva.com/2457/pyu-r-int-thick-7-2457440.pdf?src-supplier=Digi-Key; ComponentLink1Description: https://datasheet.ciiva.com/2457/pyu-r-int-thick-7-2457440.pdf?src-supplier=Digi-Key; ComponentLink2URL: https://datasheet.ciiva.com/2457/pyu-r-int-thick-7-2457441.pdf?src-supplier=Digi-Key; ComponentLink2Description: https://datasheet.ciiva.com/2457/pyu-r-int-thick-7-2457441.pdf?src-supplier=Digi-Key; ComponentLink3URL: https://datasheet.ciiva.com/2457/pyu-r-int-thick-7-2457442.pdf?src-supplier=Digi-Key; ComponentLink3Description: https://datasheet.ciiva.com/2457/pyu-r-int-thick-7-2457442.pdf?src-supplier=Digi-Key; ComponentLink4URL: https://datasheet.ciiva.com/17082/rc0805-17082718.pdf?src-supplier=Future+Electronics; ComponentLink4Description: https://datasheet.ciiva.com/17082/rc0805-17082718.pdf?src-supplier=Future+Electronics; Supplier Part Number 1: 311-1.58KCRCT-ND
footprint Resistor__E0805
footprint RESC1608X55N
pins: 1, 2

## RC0805JR-0710KL
designator R?, comment 10k
10k E0805 1% 1/8W; Tolerance: 5%; Resistance: 10kR; Power Rating: 125mW; Temperature Coefficient: 100ppm/°C; Voltage Rating: 150V; MPN: *; Category: *; RoHS: Yes; Case/Package: 0805; Contact Plating: Tin; Case Code (Imperial): 0805; Case Code (Metric): 2012; Min Operating Temperature: -55°C; Max Operating Temperature: 155°C; Composition: Thick Film; Packaging: Tape and Reel; Termination: SMD/SMT; Military Standard: Not; Length: 2mm; Height: 0.5mm; Width: 1.25mm; Depth: 1.25mm; Radiation Hardening: No; REACH SVHC: Unknown; Lead Free: Lead Free; ComponentLink1URL: https://datasheet.ciiva.com/7941/444164-7941870.pdf?src-supplier=Element14; ComponentLink1Description: https://datasheet.ciiva.com/7941/444164-7941870.pdf?src-supplier=Element14; ComponentLink2URL: https://datasheet.ciiva.com/7941/444164-7941871.pdf?src-supplier=Element14; ComponentLink2Description: https://datasheet.ciiva.com/7941/444164-7941871.pdf?src-supplier=Element14; ComponentLink3URL: https://datasheet.ciiva.com/7983/444164-7983765.pdf?src-supplier=Element14; ComponentLink3Description: https://datasheet.ciiva.com/7983/444164-7983765.pdf?src-supplier=Element14; Supplier 1: Digi-Key; Supplier Part Number 1: 311-10KARCT-ND
footprint RESC1608X55N
pins: 1, 2

## RC0805JR-0710KL_1
designator R?, comment 10k
10k E0805 1% 1/8W; Tolerance: 5%; Resistance: 10kR; Power Rating: 125mW; Temperature Coefficient: 100ppm/°C; Voltage Rating: 150V; MPN: *; Category: *; Supplier 1: Digi-Key; RoHS: Yes; Case/Package: 0805; Contact Plating: Tin; Case Code (Imperial): 0805; Case Code (Metric): 2012; Min Operating Temperature: -55°C; Max Operating Temperature: 155°C; Composition: Thick Film; Packaging: Tape and Reel; Termination: SMD/SMT; Military Standard: Not; Length: 2mm; Height: 0.5mm; Width: 1.25mm; Depth: 1.25mm; Radiation Hardening: No; REACH SVHC: Unknown; Lead Free: Lead Free; ComponentLink1URL: https://datasheet.ciiva.com/7941/444164-7941870.pdf?src-supplier=Element14; ComponentLink1Description: https://datasheet.ciiva.com/7941/444164-7941870.pdf?src-supplier=Element14; ComponentLink2URL: https://datasheet.ciiva.com/7941/444164-7941871.pdf?src-supplier=Element14; ComponentLink2Description: https://datasheet.ciiva.com/7941/444164-7941871.pdf?src-supplier=Element14; ComponentLink3URL: https://datasheet.ciiva.com/7983/444164-7983765.pdf?src-supplier=Element14; ComponentLink3Description: https://datasheet.ciiva.com/7983/444164-7983765.pdf?src-supplier=Element14; Supplier Part Number 1: 311-10KARCT-ND
footprint Resistor__E0805
footprint RESC1608X55N
pins: 1, 2

## RC0805JR-0710KL_2
designator R?, comment 500R
10k E0805 1% 1/8W; Tolerance: 5%; Resistance: 10kR; Power Rating: 125mW; Temperature Coefficient: 100ppm/°C; Voltage Rating: 150V; MPN: *; Category: *; RoHS: Yes; Case/Package: 0805; Contact Plating: Tin; Case Code (Imperial): 0805; Case Code (Metric): 2012; Min Operating Temperature: -55°C; Max Operating Temperature: 155°C; Composition: Thick Film; Packaging: Tape and Reel; Termination: SMD/SMT; Military Standard: Not; Length: 2mm; Height: 0.5mm; Width: 1.25mm; Depth: 1.25mm; Radiation Hardening: No; REACH SVHC: Unknown; Lead Free: Lead Free; ComponentLink1URL: https://datasheet.ciiva.com/7941/444164-7941870.pdf?src-supplier=Element14; ComponentLink1Description: https://datasheet.ciiva.com/7941/444164-7941870.pdf?src-supplier=Element14; ComponentLink2URL: https://datasheet.ciiva.com/7941/444164-7941871.pdf?src-supplier=Element14; ComponentLink2Description: https://datasheet.ciiva.com/7941/444164-7941871.pdf?src-supplier=Element14; ComponentLink3URL: https://datasheet.ciiva.com/7983/444164-7983765.pdf?src-supplier=Element14; ComponentLink3Description: https://datasheet.ciiva.com/7983/444164-7983765.pdf?src-supplier=Element14; Supplier 1: Digi-Key; Supplier Part Number 1: 311-10KARCT-ND
footprint Resistor__E0805
footprint RESC1608X55N
pins: 1, 2

## Res1
designator R?  value 220K  (hidden comment: Res1)
120-842; Published: 8-Jun-2000; LatestRevisionDate: 17-Jul-2002; LatestRevisionNote: Re-released for DXP Platform.; PackageReference: AXIAL-0.3; Publisher: Altium Limited; PackageDescription: Axial Device, Thru-Hole; 2 Leads; 0.3 in Pin Spacing
footprint RES 0603/1608 (Chip Resistor, 2-Leads, Body 1.60x0.80mm, IPC Medium Density)
simulation model RESISTOR (Resistor)
signal-integrity model Res
footprint RESC1608X55N
pins: 1, 2

## Res1_1
designator R?, comment value 36.5K  (hidden comment: Res1)
169-4216; Published: 8-Jun-2000; LatestRevisionDate: 17-Jul-2002; LatestRevisionNote: Re-released for DXP Platform.; PackageReference: AXIAL-0.3; Publisher: Altium Limited; PackageDescription: Axial Device, Thru-Hole; 2 Leads; 0.3 in Pin Spacing
footprint RES 0603/1608 (Chip Resistor, 2-Leads, Body 1.60x0.80mm, IPC Medium Density)
simulation model RESISTOR (Resistor)
signal-integrity model Res
footprint RESC1608X55N
pins: 1, 2

## Res1_2
designator R?, comment value 10k  (hidden comment: Res1)
169-4216; Published: 8-Jun-2000; LatestRevisionDate: 17-Jul-2002; LatestRevisionNote: Re-released for DXP Platform.; PackageReference: AXIAL-0.3; Publisher: Altium Limited; PackageDescription: Axial Device, Thru-Hole; 2 Leads; 0.3 in Pin Spacing
footprint RES 0603/1608 (Chip Resistor, 2-Leads, Body 1.60x0.80mm, IPC Medium Density)
simulation model RESISTOR (Resistor)
signal-integrity model Res
footprint RESC1608X55N
pins: 1, 2

## Res1_3
designator R?, comment value 7k  (hidden comment: Res1)
CRCW06033K24FKEA; Published: 8-Jun-2000; LatestRevisionDate: 17-Jul-2002; LatestRevisionNote: Re-released for DXP Platform.; PackageReference: AXIAL-0.3; Publisher: Altium Limited; PackageDescription: Axial Device, Thru-Hole; 2 Leads; 0.3 in Pin Spacing
footprint RES 0603/1608 (Chip Resistor, 2-Leads, Body 1.60x0.80mm, IPC Medium Density)
simulation model RESISTOR (Resistor)
signal-integrity model Res
footprint RESC1608X55N
pins: 1, 2

## Res1_4
designator R?, comment value 36.5K  (hidden comment: Res1)
679-0260; Published: 8-Jun-2000; LatestRevisionDate: 17-Jul-2002; LatestRevisionNote: Re-released for DXP Platform.; PackageReference: AXIAL-0.3; Publisher: Altium Limited; PackageDescription: Axial Device, Thru-Hole; 2 Leads; 0.3 in Pin Spacing
footprint RES 0603/1608 (Chip Resistor, 2-Leads, Body 1.60x0.80mm, IPC Medium Density)
simulation model RESISTOR (Resistor)
signal-integrity model Res
footprint RESC1608X55N
pins: 1, 2

## Res1_5
designator R?, comment value 5k  (hidden comment: Res1)
CRCW06033K24FKEA; Published: 8-Jun-2000; LatestRevisionDate: 17-Jul-2002; LatestRevisionNote: Re-released for DXP Platform.; PackageReference: AXIAL-0.3; Publisher: Altium Limited; PackageDescription: Axial Device, Thru-Hole; 2 Leads; 0.3 in Pin Spacing
footprint RES 0603/1608 (Chip Resistor, 2-Leads, Body 1.60x0.80mm, IPC Medium Density)
simulation model RESISTOR (Resistor)
signal-integrity model Res
footprint RESC1608X55N
pins: 1, 2

## Res1_6
designator R?, comment value 1.78k  (hidden comment: Res1)
679-0260; Published: 8-Jun-2000; LatestRevisionDate: 17-Jul-2002; LatestRevisionNote: Re-released for DXP Platform.; PackageReference: AXIAL-0.3; Publisher: Altium Limited; PackageDescription: Axial Device, Thru-Hole; 2 Leads; 0.3 in Pin Spacing
footprint RES 0603/1608 (Chip Resistor, 2-Leads, Body 1.60x0.80mm, IPC Medium Density)
simulation model RESISTOR (Resistor)
signal-integrity model Res
footprint RESC1608X55N
pins: 1, 2

## Res1_7
designator R?, comment value 420R  (hidden comment: Res1)
679-0260; Published: 8-Jun-2000; LatestRevisionDate: 17-Jul-2002; LatestRevisionNote: Re-released for DXP Platform.; PackageReference: AXIAL-0.3; Publisher: Altium Limited; PackageDescription: Axial Device, Thru-Hole; 2 Leads; 0.3 in Pin Spacing
footprint RES 0603/1608 (Chip Resistor, 2-Leads, Body 1.60x0.80mm, IPC Medium Density)
simulation model RESISTOR (Resistor)
signal-integrity model Res
footprint RESC1608X55N
pins: 1, 2

## Resistor
designator R?  value 51  (hidden comment: Resistor)
footprint R_0805 (0805 Resistor)
footprint R-0603 (0603 Resistor)
footprint R_2512 (2512 Resistor)
pins: 1, 2

## Resistor_1
designator R?, comment value 1.21k  (hidden comment: Resistor)
RB2
footprint R_0805 (0805 Resistor)
footprint R_2512 (2512 Resistor)
footprint R-0603 (0603 Resistor)
pins: 1, 2

## Resistor_2
designator R?, comment value 2.8k  (hidden comment: RB1)
Resistor
footprint R_0805 (0805 Resistor)
footprint R_2512 (2512 Resistor)
footprint R-0603 (0603 Resistor)
pins: 1, 2

## Resistor_3
designator R?, comment NP  value 0
Resistor
footprint R-0603 (0603 Resistor)
footprint R_0805 (0805 Resistor)
footprint R_2512 (2512 Resistor)
pins: 1, 2

## Resistor_4
designator R?, comment value 1k  (hidden comment: Resistor)
footprint R-0603 (0603 Resistor)
footprint R_0805 (0805 Resistor)
footprint R_2512 (2512 Resistor)
pins: 1, 2

## Resistor_5
designator R?, comment value 10k  (hidden comment: Resistor)
footprint R-0603 (0603 Resistor)
footprint R_0805 (0805 Resistor)
footprint R_2512 (2512 Resistor)
footprint R_2010
pins: 1, 2

## Resistor_6
designator R?, comment value R  (hidden comment: Resistor)
footprint R-0603 (0603 Resistor)
footprint R_0805 (0805 Resistor)
footprint R_2512 (2512 Resistor)
footprint R_2010
footprint 0402 (Chip Capacitor, Body 1.0x0.5mm, IPC High Density)
pins: 1, 2

## Resistor_7
designator R?, comment value 5k  (hidden comment: CR0603AFX-5101EAS)
Voltage divider
footprint R-0603 (0603 Resistor)
footprint R_0805 (0805 Resistor)
footprint R_2512 (2512 Resistor)
pins: 1, 2

## Resistor_8
designator R?, comment value 1k  (hidden comment: SFR03EZPF1001)
Voltage divider
footprint R-0603 (0603 Resistor)
footprint R_0805 (0805 Resistor)
footprint R_2512 (2512 Resistor)
pins: 1, 2

## Resistor_9
designator R?, comment value 500  (hidden comment: Resistor)
footprint R-0603 (0603 Resistor)
footprint R_0805 (0805 Resistor)
footprint R_2512 (2512 Resistor)
footprint R_2010
pins: 1, 2

## Resistor_10
designator R?, comment value 0R  (hidden comment: Resistor)
footprint R-0603 (0603 Resistor)
footprint R_0805 (0805 Resistor)
footprint R_2512 (2512 Resistor)
footprint R_2010
pins: 1, 2

## Resistor_11
designator R?, comment value 60  (hidden comment: Resistor)
footprint R-0603 (0603 Resistor)
footprint R_0805 (0805 Resistor)
footprint R_2512 (2512 Resistor)
footprint R_2010
pins: 1, 2

## SM91502ALE
designator T?  (value not drawn)
BMS XFORMER 1-CH 1000V AECQ +125; Manufacturer: Bourns; Inductance: 150uH; Turns Ratio: 1:1; Supplier 1: RSComponents; Manufacturer Part Number: SM91502ALE; RoHS: Yes; Category: Transformers; Stock 1: 1; Pricing 1: 800=2.35100 (USD); Mount: Surface Mount; Min Operating Temperature: -40°C; Max Operating Temperature: 125°C; Packaging: Cut Tape; ComponentLink1URL: https://www.bourns.com/docs/Product-Datasheets/SM91502AL.pdf?src-supplier=Digi-Key; ComponentLink1Description: https://www.bourns.com/docs/Product-Datasheets/SM91502AL.pdf?src-supplier=Digi-Key; Supplier Part Number 1: 1802382
footprint SM91502ALE
pins: 1, 2, 3, 4, 5, 6

## SN74LVC1G08MDBVREP
designator U?
Integrated Circuit; Manufacturer_Name: Texas Instruments; Datasheet Link: http://www.ti.com/lit/gpn/sn74lvc1g08-ep; Height: 1.45mm; Mouser2 Part Number: 595-SN74LVC08MDBVREP; Mouser2 Price/Stock: https://www.mouser.com/Search/Refine.aspx?Keyword=595-SN74LVC08MDBVREP; Manufacturer_Part_Number: SN74LVC1G08MDBVREP
footprint SOT95P280X145-5N
pins: 1 A, 2 B, 3 GND, 4 Y, 5 VCC

## STM32F446RE
designator U?
32 Bit Microcontroller, High Performance, ARM Cortex-M4, 180 MHz, 256 KB, 128 KB, 64, LQFP; MP: STM32F446RE; Value: *
footprint QFP50P1200X1200X160-64N
pins: 1 VBAT, 2 PC13, 3 PC14-OSC32_IN, 4 PC15-OSC32_OUT, 5 PH0-OSC_IN, 6 PH1-OSC_OUT, 7 NRST, 8 PC0, 9 PC1, 10 PC2, 11 PC3, 12 VSSA/VREF-, 13 VDDA/VREF+, 14 PA0, 15 PA1, 16 PA2, 17 PA3, 18 VSS_4, 19 VDD_4, 20 PA4, 21 PA5, 22 PA6, 23 PA7, 24 PC4, 25 PC5, 26 PB0, 27 PB1, 28 PB2, 29 PB10, 30 VCAP_1, 31 VSS_1, 32 VDD_1, 33 PB12, 34 PB13, 35 PB14, 36 PB15, 37 PC6, 38 PC7, 39 PC8, 40 PC9, 41 PA8, 42 PA9, 43 PA10, 44 PA11, 45 PA12, 46 PA13, 47 VSS_2, 48 VDD_2, 49 PA14, 50 PA15, 51 PC10, 52 PC11, 53 PC12, 54 PD2, 55 PB3, 56 PB4, 57 PB5, 58 PB6, 59 PB7, 60 BOOT0, 61 PB8, 62 PB9, 63 VSS_3, 64 VDD_3

## TitleBlock
designator *?  (value not drawn)  (graphical)
text: Title; Author; Version; Project; Date; Sheet; of

## TLC3704QDRG4Q1
designator U?
IC VOLT COMPARATOR QUAD 14-SOIC; Manufacturer 1: Texas Instruments; Common Mode Rejection Ratio: 84dB; Min Supply Voltage: 3V; Max Supply Voltage: 16V; Operating Supply Voltage: 5V; Nominal Supply Current: 80uA; Max Power Dissipation: 950mW; Number of Elements: 4; Input Offset Voltage (Vos): 5mV; Input Bias Current: 5pA; Output Current: 20mA; Quiescent Current: 175uA; Propagation Delay: 4.5us; Response Time: 0.3us; Power Supply Rejection Ratio (PSRR): 85dB; Output Type: TTL; Supplier 1: Digi-Key; Supplier Part Number 1: 296-23711-1-ND; Manufacturer Part Number 1: TLC3704QDRG4Q1; Stock 1: 3794; Pricing 1: 1=1.68000, 10=1.50700, 100=1.21100, 500=0.99498, 1000=0.82441 (USD); RoHS: Yes; Mount: Surface Mount; Case/Package: SOIC; Number of Pins: 14; Weight: 0.004318oz; Contact Plating: Gold; Min Operating Temperature: -40°C; Max Operating Temperature: 125°C; Packaging: Tape and Reel; Package Quantity: 2500; Max Supply Current: 80uA; Number of Bits: 4; Number of Channels: 4; Max Input Current: 5pA; Power Dissipation: 950mW; Type: General Purpose; Radiation Hardening: No; Lead Free: Lead Free; ComponentLink1URL: https://datasheet.ciiva.com/1828/tlc3704-q1-1828544.pdf?src-supplier=Digi-Key; ComponentLink1Description: https://datasheet.ciiva.com/1828/tlc3704-q1-1828544.pdf?src-supplier=Digi-Key; ComponentLink2URL: https://datasheet.ciiva.com/4464/sgls191a-104586-4464808.pdf?src-supplier=Mouser; ComponentLink2Description: https://datasheet.ciiva.com/4464/sgls191a-104586-4464808.pdf?src-supplier=Mouser; ComponentLink3URL: https://datasheet.ciiva.com/15131/getdatasheetpartid-331461-15131244.pdf?src-supplier=Verical; ComponentLink3Description: https://datasheet.ciiva.com/15131/getdatasheetpartid-331461-15131244.pdf?src-supplier=Verical; ComponentLink4URL: https://datasheet.ciiva.com/14391/tlc3704-q1-14391948.pdf?src-supplier=Avnet; ComponentLink4Description: https://datasheet.ciiva.com/14391/tlc3704-q1-14391948.pdf?src-supplier=Avnet; ComponentLink5URL: https://datasheet.ciiva.com/1828/tlc3704-q1-1828542.pdf?src-supplier=Digi-Key; ComponentLink5Description: https://datasheet.ciiva.com/1828/tlc3704-q1-1828542.pdf?src-supplier=Digi-Key; ComponentLink6URL: https://datasheet.ciiva.com/1828/tlc3704-q1-1828543.pdf?src-supplier=Digi-Key; ComponentLink6Description: https://datasheet.ciiva.com/1828/tlc3704-q1-1828543.pdf?src-supplier=Digi-Key
footprint SOIC14 (SOIC, 14-Leads, Body 8.65x3.90mm, Pitch 1.27mm, IPC Medium Density)
footprint SOIC127P600X175-14N
pins: 1 Out1, 2 Out2, 3 VDD, 4 In2-, 5 In2+, 6 In1-, 7 In1+, 8 In3-, 9 In3+, 10 In4-, 11 In4+, 12 GND, 13 Out4, 14 Out3